# Altium schematic symbol library Socket 1.SchLib: 1 symbol
Pins are listed as number, name and electrical type; pins without a type are passive.

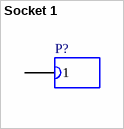
[diagram p0: symbol Socket 1]

## Socket 1
designator P?
Socket, 1-Pin
pins: 1